# Altium footprint library jointbar.PCBLIB: 193 footprints (part 10 of 13)
Each footprint in its own frame and in the unit in brackets; x right, y up, seen from the top. Pads: shape width x height; smd on the part's side, far side on the other; paste and mask are expansions set on the pad; w line width, h text height; cw(c..) or ccw(c..) is an arc to the next point about the centre after c.
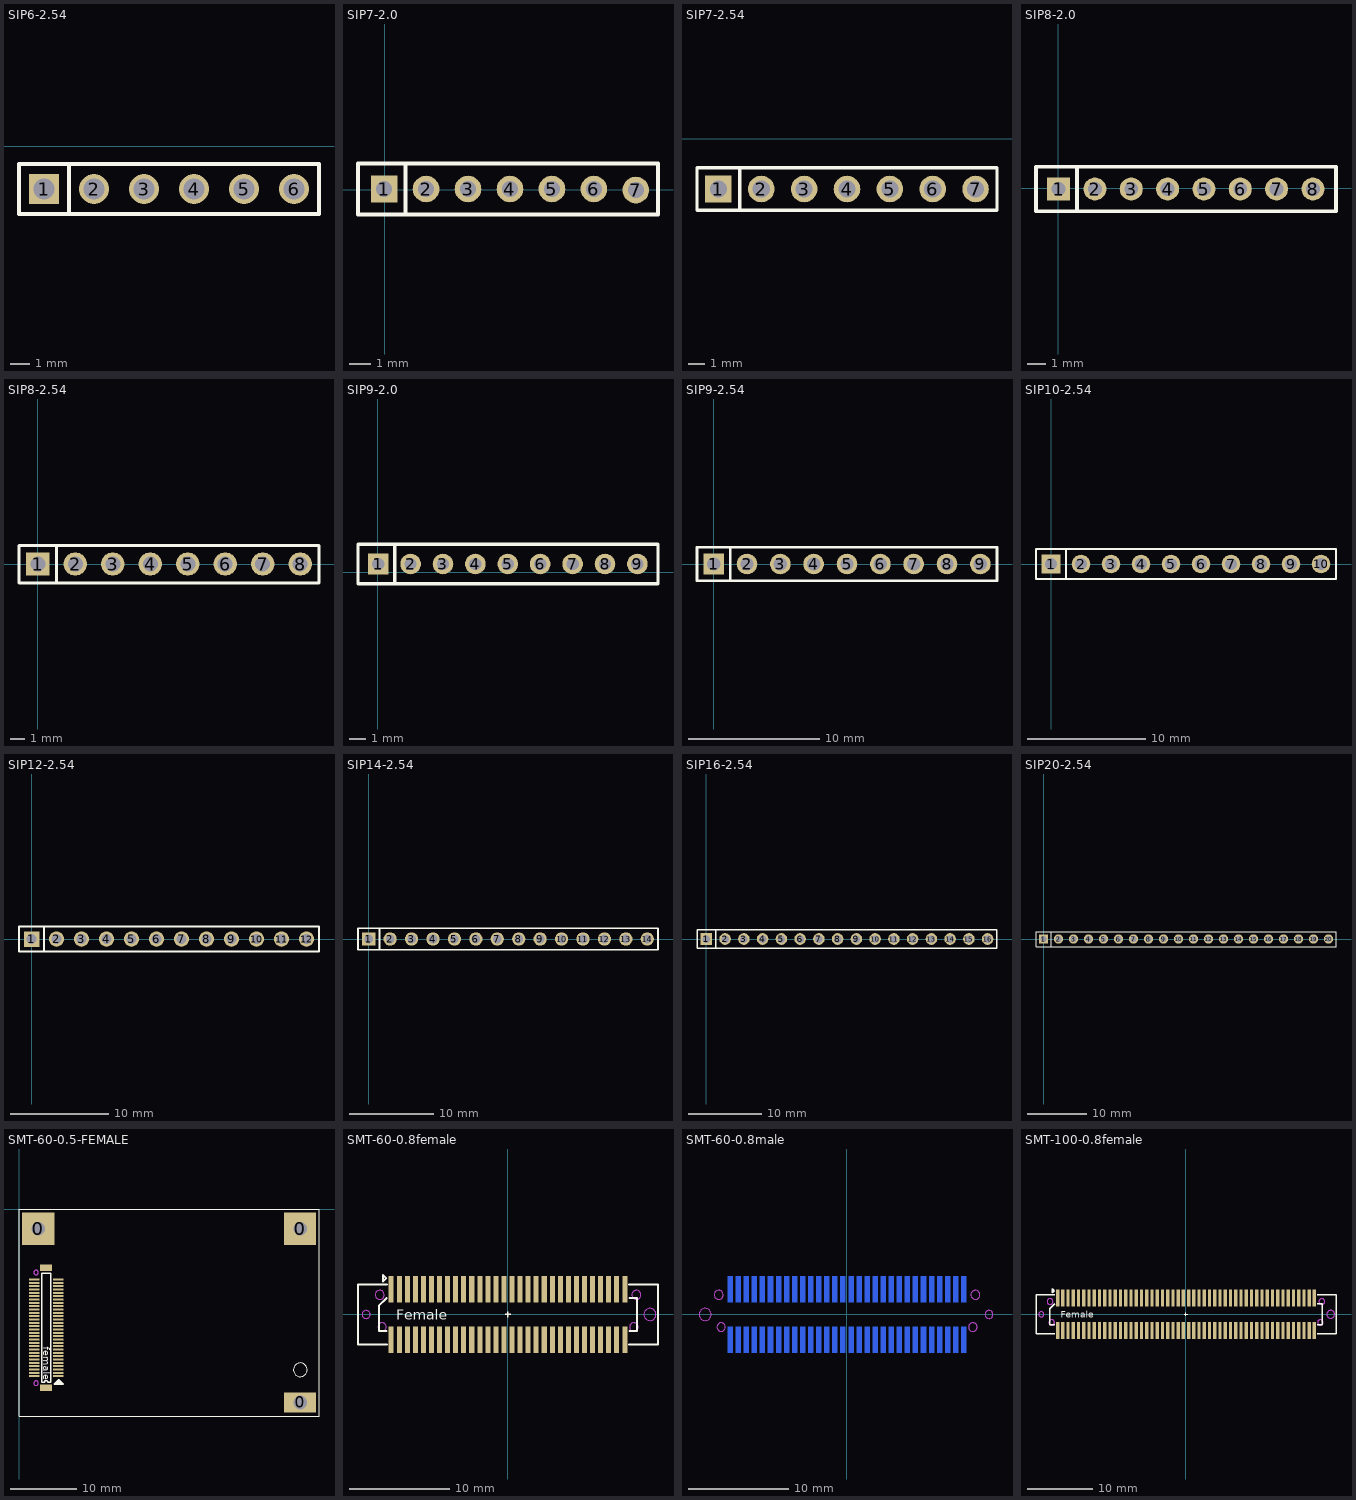
[diagram p9: the footprints below, top view; thin cyan lines are the x and y axes]

## SIP6-2.54 [mil]
pads (6):
  rect 60x60 hole 42: 1(89.75,-85.93)
  round 60 hole 42: 2(189.75,-85.93) 3(289.75,-85.93) 4(389.75,-85.93) 5(489.75,-85.93) 6(589.75,-85.93)
TopOverlay:
  lines w8: 139.75,-135.93 139.75,-35.93 ; 39.74,-135.93 39.74,-35.93 639.75,-35.93 639.75,-135.93 39.74,-135.93

## SIP7-2.0 [mil]
pads (7):
  rect 50x50 hole 30: 1(-1,1)
  round 50 hole 30: 2(77.74,1) 3(156.48,1) 4(235.22,1) 5(313.96,1) 6(392.7,1) 7(471.44,-1)
TopOverlay:
  lines w8: 39,-47 39,49 ; 513,48 513,-47 -50,-47 -50,49 513,49

## SIP7-2.54 [mil]
pads (7):
  rect 62x62 hole 40: 1(120,-117)
  round 62 hole 40: 2(220,-117) 3(320,-117) 4(420,-117) 5(520,-117) 6(620,-117) 7(720,-117)
TopOverlay:
  lines w8: 170,-167 170,-67 ; 70,-167 70,-67 770,-67 770,-167 70,-167

## SIP8-2.0 [mil]
pads (8):
  rect 50x50 hole 30: 1(1,-2)
  round 50 hole 30: 2(79.74,-2) 3(158.48,-2) 4(237.22,-2) 5(315.96,-2) 6(394.7,-2) 7(473.44,-2) 8(552.18,-2)
TopOverlay:
  lines w8: 41,-50 41,46 ; 602.18,45 602.18,-50 -48,-50 -48,46 602.18,46

## SIP8-2.54 [mil]
pads (8):
  rect 62x62 hole 40: 1(0,0)
  round 62 hole 40: 2(100,0) 3(200,0) 4(300,0) 5(400,0) 6(500,0) 7(600,0) 8(700,0)
TopOverlay:
  lines w8: 50,-50 50,50 ; -50,-50 750,-50 750,50 -50,50 -50,-50

## SIP9-2.0 [mil]
pads (9):
  rect 50x50 hole 30: 1(1,20)
  round 50 hole 30: 2(79.74,20) 3(158.48,20) 4(237.22,20) 5(315.96,20) 6(394.7,20) 7(473.44,20) 8(552.18,20) 9(630.92,20)
TopOverlay:
  lines w8: 41,-28 41,68 ; 680.92,67 680.92,-28 -48,-28 -48,68 680.95,68

## SIP9-2.54 [mil]
pads (9):
  rect 62x62 hole 40: 1(0,0)
  round 62 hole 40: 2(100,0) 3(200,0) 4(300,0) 5(400,0) 6(500,0) 7(600,0) 8(700,0) 9(800,0)
TopOverlay:
  lines w8: 50,-50 50,50 ; -50,-50 850,-50 850,50 -50,50 -50,-50

## SIP10-2.54 [mil]
pads (10):
  rect 62x62 hole 40: 1(0,0)
  round 62 hole 40: 2(100,0) 3(200,0) 4(300,0) 5(400,0) 6(500,0) 7(600,0) 8(700,0) 9(800,0) 10(900,0)
TopOverlay:
  lines w8: 50,-50 50,50 ; -50,-50 950,-50 950,50 -50,50 -50,-50

## SIP12-2.54 [mil]
pads (12):
  rect 62x62 hole 40: 1(0,0)
  round 62 hole 40: 2(100,0) 3(200,0) 4(300,0) 5(400,0) 6(500,0) 7(600,0) 8(700,0) 9(800,0) 10(900,0) 11(1000,0) 12(1100,0)
TopOverlay:
  lines w8: 50,-50 50,50 ; -50,-50 -50,50 1150,50 1150,-50 -50,-50

## SIP14-2.54 [mil]
pads (14):
  rect 62x62 hole 40: 1(0,0)
  round 62 hole 40: 2(100,0) 3(200,0) 4(300,0) 5(400,0) 6(500,0) 7(600,0) 8(700,0) 9(800,0) 10(900,0) 11(1000,0) 12(1100,0) 13(1200,0) 14(1300,0)
TopOverlay:
  lines w8: 50,-50 50,50 ; -50,-50 1350,-50 1350,50 -50,50 -50,-50

## SIP16-2.54 [mil]
pads (16):
  rect 62x62 hole 40: 1(0,0)
  round 62 hole 40: 2(100,0) 3(200,0) 4(300,0) 5(400,0) 6(500,0) 7(600,0) 8(700,0) 9(800,0) 10(900,0) 11(1000,0) 12(1100,0) 13(1200,0) 14(1300,0) 15(1400,0) 16(1500,0)
TopOverlay:
  lines w8: 50,-50 50,50 ; -50,-50 -50,50 1550,50 1550,-50 -50,-50

## SIP20-2.54 [mil]
pads (20):
  rect 62x62 hole 40: 1(0,0)
  round 62 hole 40: 2(100,0) 3(200,0) 4(300,0) 5(400,0) 6(500,0) 7(600,0) 8(700,0) 9(800,0) 10(900,0) 11(1000,0) 12(1100,0) 13(1200,0) 14(1300,0) 15(1400,0) 16(1500,0) 17(1600,0) 18(1700,0) 19(1800,0) 20(1900,0)
TopOverlay:
  lines w8: 50,-50 50,50 ; -50,-50 -50,50 1950,50 1950,-50 -50,-50

## SMT-60-0.5-FEMALE [mm]
pads (65):
  rect 4.826x4.826 hole 2.032: 0(2.89,-2.9) 0(42.16,-2.9)
  rect 1.8x1 smd: 0(4.07,-26.76) 0(4.07,-8.76)
  rect 4.826x3.048 hole 2.032: 0(42.16,-28.96)
  rect 1.6x0.3 smd: 1(5.87,-25.01) 2(2.27,-25.01) 3(5.87,-24.51) 4(2.27,-24.51) 5(5.87,-24.01) 6(2.27,-24.01) 7(5.87,-23.51) 8(2.27,-23.51) 9(5.87,-23.01) 10(2.27,-23.01) 11(5.87,-22.51) 12(2.27,-22.51) 13(5.87,-22.01) 14(2.27,-22.01) 15(5.87,-21.51) 16(2.27,-21.51) 17(5.87,-21.01) 18(2.27,-21.01) 19(5.87,-20.51) 20(2.27,-20.51) 21(5.87,-20.01) 22(2.27,-20.01) 23(5.87,-19.51) 24(2.27,-19.51) 25(5.87,-19.01) 26(2.27,-19.01) 27(5.87,-18.51) 28(2.27,-18.51) 29(5.87,-18.01) 30(2.27,-18.01) 31(5.87,-17.51) 32(2.27,-17.51) 33(5.87,-17.01) 34(2.27,-17.01) 35(5.87,-16.51) 36(2.27,-16.51) 37(5.87,-16.01) 38(2.27,-16.01) 39(5.87,-15.51) 40(2.27,-15.51) 41(5.87,-15.01) 42(2.27,-15.01) 43(5.87,-14.51) 44(2.27,-14.51) 45(5.87,-14.01) 46(2.27,-14.01) 47(5.87,-13.51) 48(2.27,-13.51) 49(5.87,-13.01) 50(2.27,-13.01) 51(5.87,-12.51) 52(2.27,-12.51) 53(5.87,-12.01) 54(2.27,-12.01) 55(5.87,-11.51) 56(2.27,-11.51) 57(5.87,-11.01) 58(2.27,-11.01) 59(5.87,-10.51) 60(2.27,-10.51)
TopOverlay:
  circle w0.152: c42.192,-24.058 r1.025
  lines w0.127: 0,-31 0,0 45,0 45,-31 0,-31
  lines w0.2: 3.417,-25.942 3.417,-9.607 4.747,-9.607 4.747,-25.942 4.35,-25.942 ccw(c4.082,-25.942) 3.813,-25.942 3.417,-25.942
  lines w0.229: 5.506,-26.001 6.444,-26.001 ; 5.72,-25.787 6.23,-25.787 ; 5.289,-26.218 6.661,-26.218 5.975,-25.532 5.289,-26.218
  text "female" at 3.658,-20.599 h1.02
KeepOutLayer:
  circle w0.127: c2.57,-26.06 r0.35
  circle w0.127: c2.57,-9.46 r0.35
Mechanical1:
  circle w0.127: c2.57,-9.46 r0.35
  circle w0.127: c2.57,-26.06 r0.35

## SMT-60-0.8female [mm] "Male"
height 7
pads (60):
  rect 0.5x2.6 smd: 1(-11.6,2.505) 2(-11.6,-2.505) 3(-10.8,2.505) 4(-10.8,-2.505) 5(-10,2.505) 6(-10,-2.505) 7(-9.2,2.505) 8(-9.2,-2.505) 9(-8.4,2.505) 10(-8.4,-2.505) 11(-7.6,2.505) 12(-7.6,-2.505) 13(-6.8,2.505) 14(-6.8,-2.505) 15(-6,2.505) 16(-6,-2.505) 17(-5.2,2.505) 18(-5.2,-2.505) 19(-4.4,2.505) 20(-4.4,-2.505) 21(-3.6,2.505) 22(-3.6,-2.505) 23(-2.8,2.505) 24(-2.8,-2.505) 25(-2,2.505) 26(-2,-2.505) 27(-1.2,2.505) 28(-1.2,-2.505) 29(-0.4,2.505) 30(-0.4,-2.505) 31(0.4,2.505) 32(0.4,-2.505) 33(1.2,2.505) 34(1.2,-2.505) 35(2,2.505) 36(2,-2.505) 37(2.8,2.505) 38(2.8,-2.505) 39(3.6,2.505) 40(3.6,-2.505) 41(4.4,2.505) 42(4.4,-2.505) 43(5.2,2.505) 44(5.2,-2.505) 45(6,2.505) 46(6,-2.505) 47(6.8,2.505) 48(6.8,-2.505) 49(7.6,2.505) 50(7.6,-2.505) 51(8.4,2.505) 52(8.4,-2.505) 53(9.2,2.505) 54(9.2,-2.505) 55(10,2.505) 56(10,-2.505) 57(10.8,2.505) 58(10.8,-2.505) 59(11.6,2.505) 60(11.6,-2.505)
TopOverlay:
  lines w0.127: -0.254,0 0.254,0 ; 0,-0.254 0,0.254
  lines w0.203: -12.066,-1.626 -12.828,-1.626 -12.828,0.864 -12.066,1.626 ; -12,-3 -14.9,-3 -14.9,3 -12,3 ; 12,-3 14.9,-3 14.9,3 12,3 ; 12.066,-1.626 12.828,-1.626 12.828,1.626 12.066,1.626 ; -12.402,3.298 -12.402,3.902 -12.1,3.6 -12.402,3.298
  text "Female" at -11.1,-0.5 h1.02
KeepOutLayer:
  circle w0.1: c12.75,1.95 r0.45
  circle w0.1: c14.1,0 r0.6
  circle w0.1: c12.5,-1.25 r0.425
  circle w0.1: c-12.5,-1.25 r0.425
  circle w0.1: c-14.1,0 r0.4
  circle w0.1: c-12.75,1.95 r0.45
Mechanical1:
  circle w0.1: c12.75,1.95 r0.45
  circle w0.1: c14.1,0 r0.6
  circle w0.1: c12.5,-1.25 r0.425
  circle w0.1: c-12.5,-1.25 r0.425
  circle w0.1: c-14.1,0 r0.4
  circle w0.1: c-12.75,1.95 r0.45

## SMT-60-0.8male [mm] "Male"
height 3.607
pads (60):
  rect 0.5x2.6 smd far side: 1(-11.6,2.505) 2(-11.6,-2.505) 3(-10.8,2.505) 4(-10.8,-2.505) 5(-10,2.505) 6(-10,-2.505) 7(-9.2,2.505) 8(-9.2,-2.505) 9(-8.4,2.505) 10(-8.4,-2.505) 11(-7.6,2.505) 12(-7.6,-2.505) 13(-6.8,2.505) 14(-6.8,-2.505) 15(-6,2.505) 16(-6,-2.505) 17(-5.2,2.505) 18(-5.2,-2.505) 19(-4.4,2.505) 20(-4.4,-2.505) 21(-3.6,2.505) 22(-3.6,-2.505) 23(-2.8,2.505) 24(-2.8,-2.505) 25(-2,2.505) 26(-2,-2.505) 27(-1.2,2.505) 28(-1.2,-2.505) 29(-0.4,2.505) 30(-0.4,-2.505) 31(0.4,2.505) 32(0.4,-2.505) 33(1.2,2.505) 34(1.2,-2.505) 35(2,2.505) 36(2,-2.505) 37(2.8,2.505) 38(2.8,-2.505) 39(3.6,2.505) 40(3.6,-2.505) 41(4.4,2.505) 42(4.4,-2.505) 43(5.2,2.505) 44(5.2,-2.505) 45(6,2.505) 46(6,-2.505) 47(6.8,2.505) 48(6.8,-2.505) 49(7.6,2.505) 50(7.6,-2.505) 51(8.4,2.505) 52(8.4,-2.505) 53(9.2,2.505) 54(9.2,-2.505) 55(10,2.505) 56(10,-2.505) 57(10.8,2.505) 58(10.8,-2.505) 59(11.6,2.505) 60(11.6,-2.505)
BottomOverlay:
  lines w0.127: -0.254,0 0.254,0 ; 0,-0.254 0,0.254
  lines w0.203: -12.066,-1.626 -12.828,-1.626 -12.828,0.864 -12.066,1.626 ; -12,-3 -14.9,-3 -14.9,3 -12,3 ; 12,-3 14.9,-3 14.9,3 12,3 ; 12.066,-1.626 12.828,-1.626 12.828,1.626 12.066,1.626 ; -12.402,3.298 -12.402,3.902 -12.1,3.6 -12.402,3.298
  text "Male" at -10.771,0.483 h1.02
KeepOutLayer:
  circle w0.1: c12.5,-1.25 r0.425
  circle w0.1: c12.75,1.95 r0.45
  circle w0.1: c14.1,0 r0.4
  circle w0.1: c-14.1,0 r0.6
  circle w0.1: c-12.75,1.95 r0.45
  circle w0.1: c-12.5,-1.25 r0.425
Mechanical1:
  circle w0.1: c12.5,-1.25 r0.425
  circle w0.1: c12.75,1.95 r0.45
  circle w0.1: c14.1,0 r0.4
  circle w0.1: c-14.1,0 r0.6
  circle w0.1: c-12.75,1.95 r0.45
  circle w0.1: c-12.5,-1.25 r0.425

## SMT-100-0.8female [mm] "Male"
height 7
pads (100):
  rect 0.5x2.6 smd: 1(-19.6,2.505) 2(-19.6,-2.505) 3(-18.8,2.505) 4(-18.8,-2.505) 5(-18,2.505) 6(-18,-2.505) 7(-17.2,2.505) 8(-17.2,-2.505) 9(-16.4,2.505) 10(-16.4,-2.505) 11(-15.6,2.505) 12(-15.6,-2.505) 13(-14.8,2.505) 14(-14.8,-2.505) 15(-14,2.505) 16(-14,-2.505) 17(-13.2,2.505) 18(-13.2,-2.505) 19(-12.4,2.505) 20(-12.4,-2.505) 21(-11.6,2.505) 22(-11.6,-2.505) 23(-10.8,2.505) 24(-10.8,-2.505) 25(-10,2.505) 26(-10,-2.505) 27(-9.2,2.505) 28(-9.2,-2.505) 29(-8.4,2.505) 30(-8.4,-2.505) 31(-7.6,2.505) 32(-7.6,-2.505) 33(-6.8,2.505) 34(-6.8,-2.505) 35(-6,2.505) 36(-6,-2.505) 37(-5.2,2.505) 38(-5.2,-2.505) 39(-4.4,2.505) 40(-4.4,-2.505) 41(-3.6,2.505) 42(-3.6,-2.505) 43(-2.8,2.505) 44(-2.8,-2.505) 45(-2,2.505) 46(-2,-2.505) 47(-1.2,2.505) 48(-1.2,-2.505) 49(-0.4,2.505) 50(-0.4,-2.505) 51(0.4,2.505) 52(0.4,-2.505) 53(1.2,2.505) 54(1.2,-2.505) 55(2,2.505) 56(2,-2.505) 57(2.8,2.505) 58(2.8,-2.505) 59(3.6,2.505) 60(3.6,-2.505) 61(4.4,2.505) 62(4.4,-2.505) 63(5.2,2.505) 64(5.2,-2.505) 65(6,2.505) 66(6,-2.505) 67(6.8,2.505) 68(6.8,-2.505) 69(7.6,2.505) 70(7.6,-2.505) 71(8.4,2.505) 72(8.4,-2.505) 73(9.2,2.505) 74(9.2,-2.505) 75(10,2.505) 76(10,-2.505) 77(10.8,2.505) 78(10.8,-2.505) 79(11.6,2.505) 80(11.6,-2.505) 81(12.4,2.505) 82(12.4,-2.505) 83(13.2,2.505) 84(13.2,-2.505) 85(14,2.505) 86(14,-2.505) 87(14.8,2.505) 88(14.8,-2.505) 89(15.6,2.505) 90(15.6,-2.505) 91(16.4,2.505) 92(16.4,-2.505) 93(17.2,2.505) 94(17.2,-2.505) 95(18,2.505) 96(18,-2.505) 97(18.8,2.505) 98(18.8,-2.505) 99(19.6,2.505) 100(19.6,-2.505)
TopOverlay:
  lines w0.127: -0.254,0 0.254,0 ; 0,-0.254 0,0.254
  lines w0.203: -20.066,-1.626 -20.828,-1.626 -20.828,0.864 -20.066,1.626 ; -20,-3 -22.9,-3 -22.9,3 -20,3 ; 20,-3 22.9,-3 22.9,3 20,3 ; 20.066,-1.626 20.828,-1.626 20.828,1.626 20.066,1.626 ; -20.402,3.298 -20.1,3.6 -20.402,3.902 -20.402,3.298
  text "Female" at -19.1,-0.5 h1.02
KeepOutLayer:
  circle w0.1: c-20.75,1.95 r0.45
  circle w0.1: c20.75,1.95 r0.45
  circle w0.1: c-22.1,0 r0.4
  circle w0.1: c22.1,0 r0.6
  circle w0.1: c-20.5,-1.25 r0.425
  circle w0.1: c20.5,-1.25 r0.425
Mechanical1:
  circle w0.1: c-20.75,1.95 r0.45
  circle w0.1: c20.75,1.95 r0.45
  circle w0.1: c-22.1,0 r0.4
  circle w0.1: c22.1,0 r0.6
  circle w0.1: c-20.5,-1.25 r0.425
  circle w0.1: c20.5,-1.25 r0.425